# Altium footprint library Radial_PTH.PcbLib: 2 footprints
Each footprint in its own frame and in the unit in brackets; x right, y up, seen from the top. Pads: shape width x height; smd on the part's side, far side on the other; paste and mask are expansions set on the pad; w line width, h text height; cw(c..) or ccw(c..) is an arc to the next point about the centre after c.
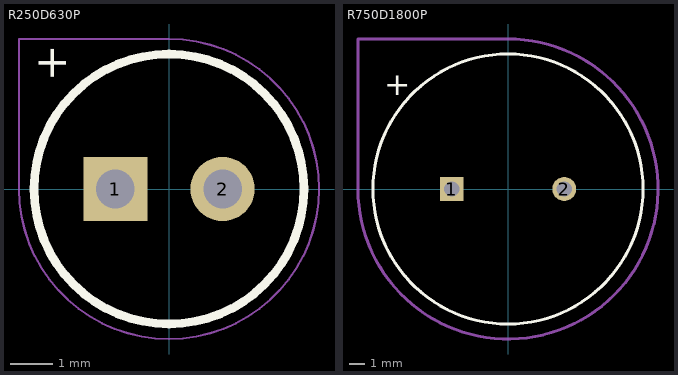
[diagram p0: the footprints below, top view; thin cyan lines are the x and y axes]

## R250D630P [mm] "Radial, 2.5mm lead spacing and 6.3mm diameter, polarized"
height 11.2
pads (2):
  rect 1.5x1.5 hole 0.9: 1(-1.25,0)
  round 1.5 hole 0.9: 2(1.25,0)
Top Overlay:
  circle w0.2: c0,0 r3.15
  text "+" at -2.4,2.5 h0.76
Assembly:
  circle w0.1: c0,0 r3.15
  text "+" at -2.2,-0.3 h0.76
Courtyard:
  lines w0.05: -3.5,0 ccw(c0,0) 0,3.5 -3.5,3.5 -3.5,0
3D body: height 11.2, standoff 0, extent -3.125,-3.144 3.15,3.144

## R750D1800P [mm] "Radial, 7.5mm lead spacing and 18mm diameter, polarized"
height 35.5
pads (2):
  rect 1.6x1.6 hole 1: 1(-3.75,0)
  round 1.6 hole 1: 2(3.75,0)
Top Overlay:
  circle w0.2: c0,0 r9
  text "+" at -8.25,6.25 h1.52
Assembly:
  text "+" at -8,-0.75 h1.52
Courtyard:
  lines w0.2: -10,0 ccw(c0,0) 0,10 -10,10 -10,0
3D body: height 35.5, standoff 0, extent -8.929,-8.982 9,8.982